# EAGLE library part IC_TTL_DUAL_74_245 (library mylib_20130829)
IC_TTL_DUAL_74_245 : DUAL-BIT DUAL-SUPPLY BUS TRANSCEIVER w/ Configurable Voltage Translation and 3-State Outputs Packages : _DIP : 2.54 x 8 x 300mil _FLAT : 0.65 x 8 x 160mil
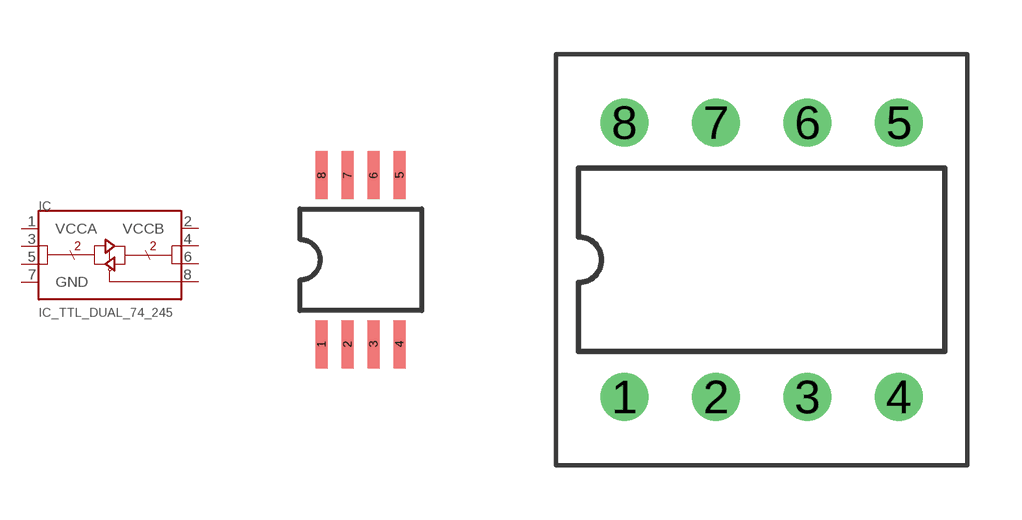
[diagram p70: symbol with the pads of IC_08_0.65_160MIL; footprints IC_08_0.65_160MIL, BOARD_HENKAN_DIP08]

Designator prefix IC

## IC_TTL_DUAL_74_245_FLAT  [IC_08_0.65_160MIL]
1  VCCA  pwr
2  VCCB  pwr
3  A1
4  B1
5  A2
6  B2
7  GND  pwr
8  DIR  in

## IC_TTL_DUAL_74_245_HENKAN  [BOARD_HENKAN_DIP08]
Pads as for IC_08_0.65_160MIL

## Footprint IC_08_0.65_160MIL (pad centres in mm)
Mini Small Outline Package
smd 0.3 x 1.2: 1 -0.976,-2.113; 2 -0.326,-2.113; 3 0.324,-2.113; 4 0.974,-2.113; 5 0.974,2.112; 6 0.324,2.112; 7 -0.326,2.112; 8 -0.976,2.112

## Footprint BOARD_HENKAN_DIP08 (pad centres in mm)
drill 0.813: 1 -3.81,-3.81; 2 -1.27,-3.81; 3 1.27,-3.81; 4 3.81,-3.81; 5 3.81,3.81; 6 1.27,3.81; 7 -1.27,3.81; 8 -3.81,3.81